# EAGLE library part RFD22301 (library Ai_RF)
RF Digital RFD22301
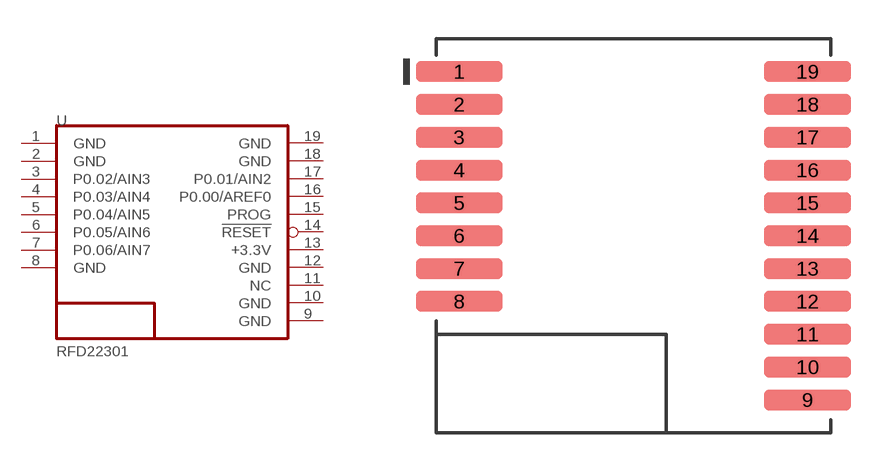
[diagram p2: symbol with the pads of RFD22301; footprint RFD22301]

Designator prefix U

## RFD22301  [RFD22301]
1  GND
2  GND
3  P0.02/AIN3
4  P0.03/AIN4
5  P0.04/AIN5
6  P0.05/AIN6
7  P0.06/AIN7
8  GND
9  GND
10  GND
11  NC  nc
12  GND
13  +3.3V
14  !RESET
15  PROG
16  P0.00/AREF0
17  P0.01/AIN2
18  GND
19  GND

## Footprint RFD22301 (pad centres in mm)
RF Digital RFD22301
smd 3.353 x 0.813: 1 -6.731,6.35; 2 -6.731,5.08; 3 -6.731,3.81; 4 -6.731,2.54; 5 -6.731,1.27; 6 -6.731,0; 7 -6.731,-1.27; 8 -6.731,-2.54; 9 6.731,-6.35; 10 6.731,-5.08; 11 6.731,-3.81; 12 6.731,-2.54; 13 6.731,-1.27; 14 6.731,0; 15 6.731,1.27; 16 6.731,2.54; 17 6.731,3.81; 18 6.731,5.08; 19 6.731,6.35